# EAGLE library part MC33926-CARRIER (library MotorDrivers)
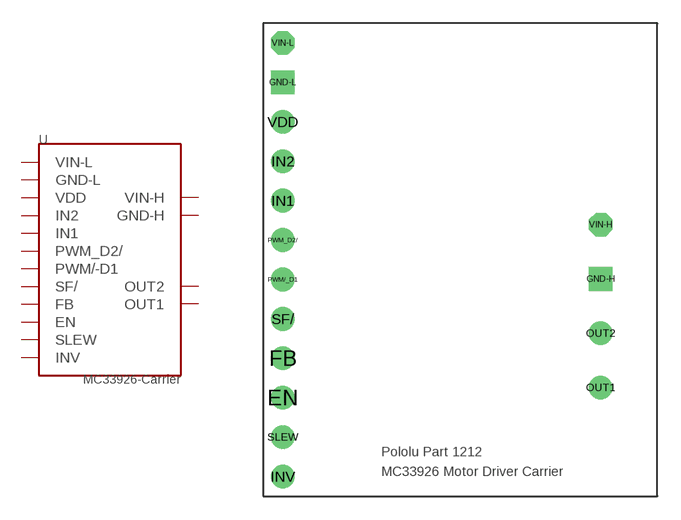
[diagram p2: symbol with the pads of MC33926-CARRIER; footprint MC33926-CARRIER]

Designator prefix -

## MC33926-CARRIER  [MC33926-CARRIER]
EN  EN
FB  FB
GND-H  GND-H
GND-L  GND-L
IN1  IN1
IN2  IN2
INV  INV
OUT1  OUT1
OUT2  OUT2
PWM/_D1  PWM/-D1
PWM_D2/  PWM_D2/
SF/  SF/
SLEW  SLEW
VDD  VDD
VIN-H  VIN-H
VIN-L  VIN-L

## Footprint MC33926-CARRIER (pad centres in mm)
drill 1.016: EN -11.43,-8.89; FB -11.43,-6.35; IN1 -11.43,3.81; IN2 -11.43,6.35; INV -11.43,-13.97; OUT1 9.05,-8.24; OUT2 9.05,-4.74; PWM/_D1 -11.43,-1.27; PWM_D2/ -11.43,1.27; SF/ -11.43,-3.81; SLEW -11.43,-11.43; VDD -11.43,8.89
drill 1.016 square: GND-H 9.05,-1.24; GND-L -11.43,11.43
drill 1.016 octagon: VIN-H 9.05,2.261; VIN-L -11.43,13.97